# Altium schematic symbol library Miscellaneous Devices.SchLib: 110 symbols
Pins are listed as number, name and electrical type; pins without a type are passive.

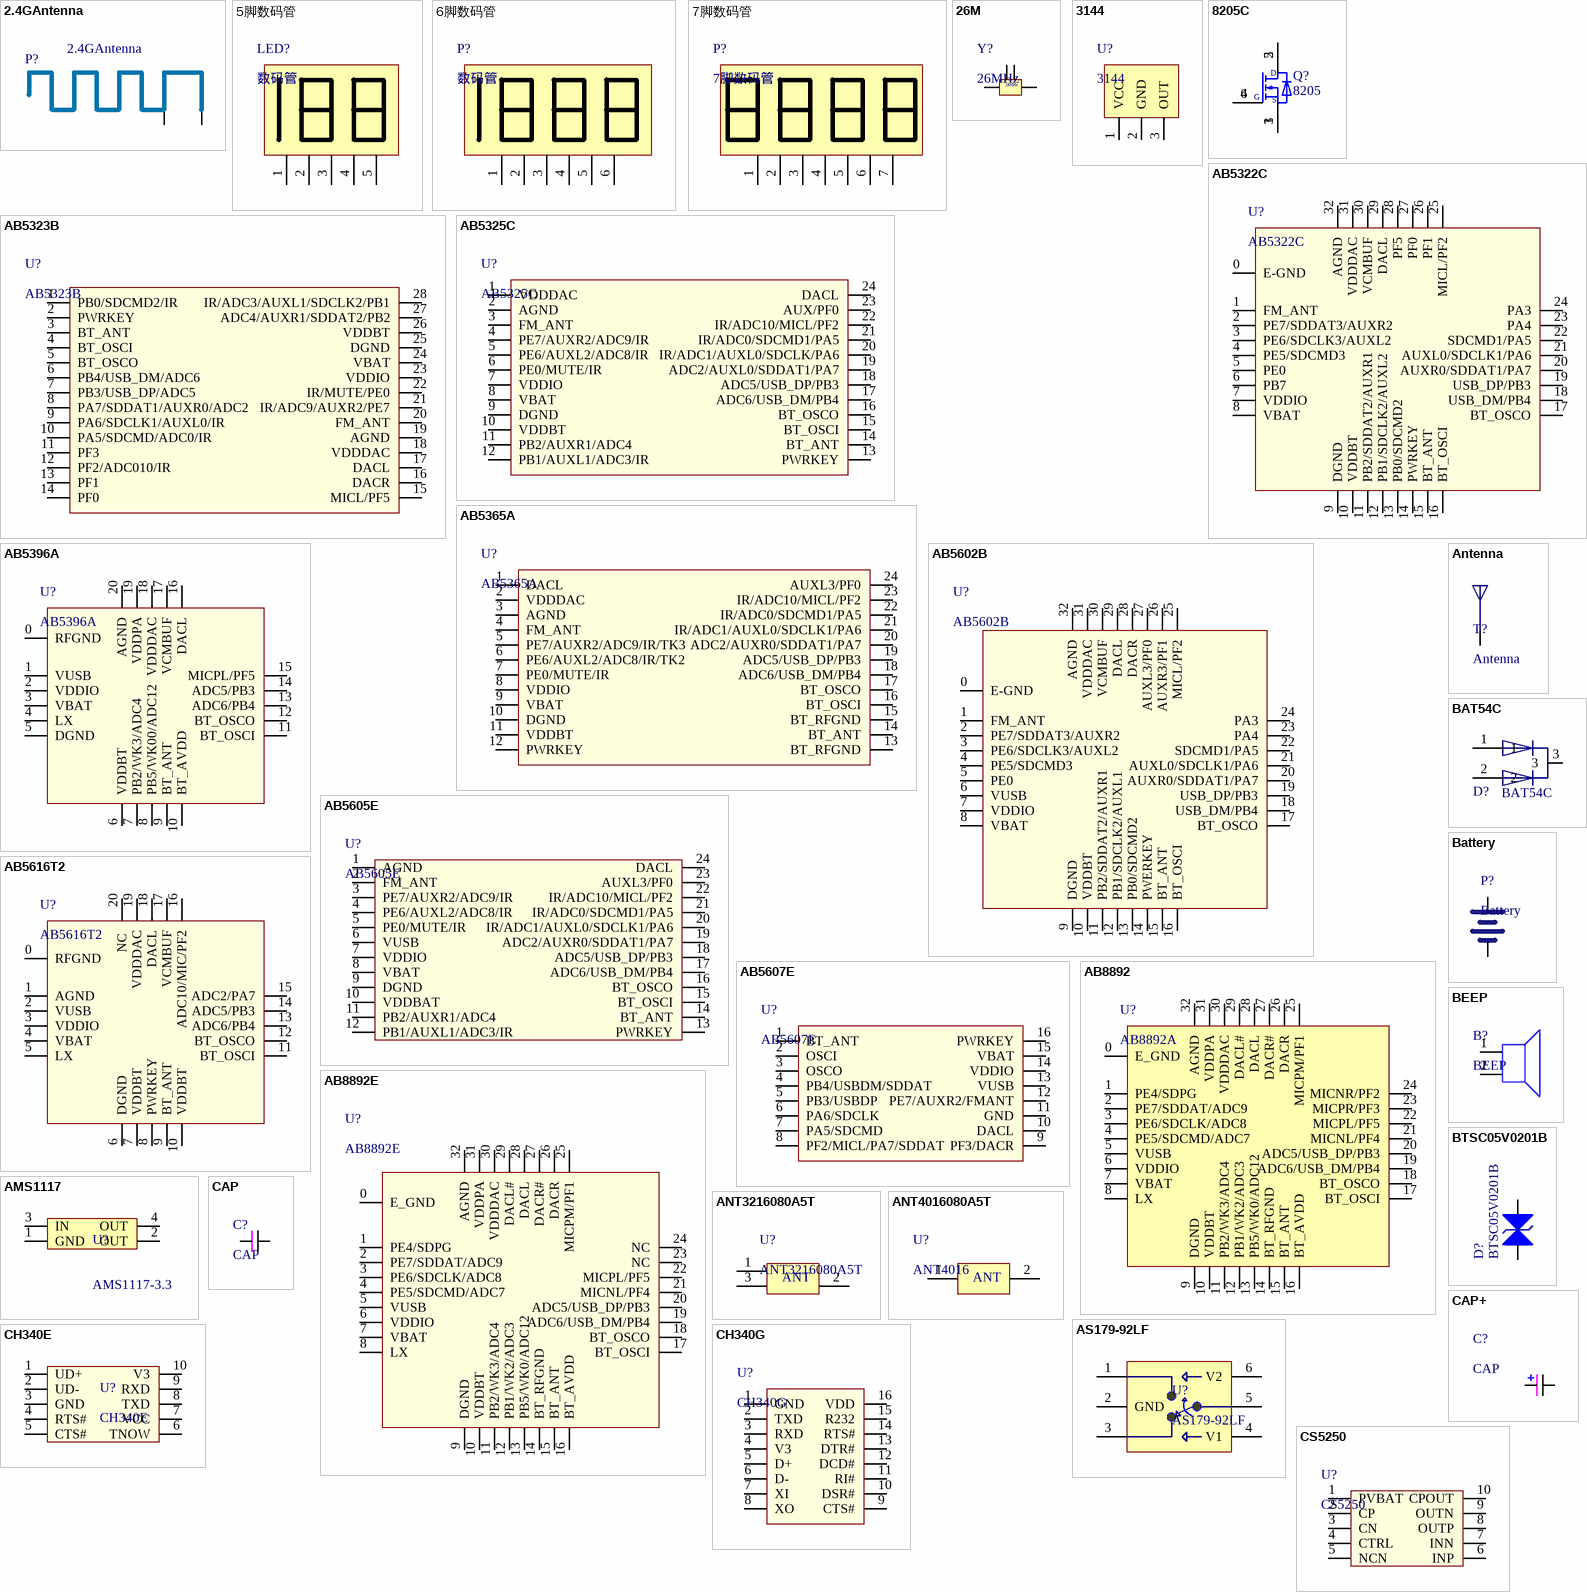
[diagram p0: symbols 2.4GAntenna to CS5250]

## 2.4GAntenna
designator P?
footprint 2_4G_RF
footprint 2.4_ANT
pins: 0, 1

## 5脚数码管
designator LED?, comment 数码管
footprint YFTD2256SW-5
pins: 1, 2, 3, 4, 5

## 6脚数码管
designator P?, comment 数码管
footprint 6脚3PIN数码管
footprint 6PIN 数码管
pins: 1, 2, 3, 4, 5, 6

## 7脚数码管
designator P?
footprint 7PIN 数码管
pins: 1, 2, 3, 4, 5, 6, 7

## 26M
designator Y?, comment 26MHz
footprint SX-3225
footprint M49SSMD
footprint SMD-2520
pins: 1, 2, 3, 4

## 3144
designator U?
footprint TO-92UA
pins: 1 VCC, 2 GND, 3 OUT

## 8205C
designator Q?, comment 8205
footprint SOT23L-6P
pins: 1 S, 2 D, 3 S, 4 G, 5 D, 6 G

## AB5322C
designator U?
footprint QFN40P400X400X75_HS-33N (QFN, 32-Leads, Body 4.00x4.00mm, Pitch 0.40mm, Thermal Pad 2.80x2.80mm, IPC Medium Density)
pins: 0 E-GND, 1 FM_ANT, 2 PE7/SDDAT3/AUXR2, 3 PE6/SDCLK3/AUXL2, 4 PE5/SDCMD3, 5 PE0, 6 PB7, 7 VDDIO, 8 VBAT, 9 DGND, 10 VDDBT, 11 PB2/SDDAT2/AUXR1, 12 PB1/SDCLK2/AUXL2, 13 PB0/SDCMD2, 14 PWRKEY, 15 BT_ANT, 16 BT_OSCI, 17 BT_OSCO, 18 USB_DM/PB4, 19 USB_DP/PB3, 20 AUXR0/SDDAT1/PA7, 21 AUXL0/SDCLK1/PA6, 22 SDCMD1/PA5, 23 PA4, 24 PA3, 25 MICL/PF2, 26 PF1, 27 PF0, 28 PF5, 29 DACL, 30 VCMBUF, 31 VDDDAC, 32 AGND

## AB5323B
designator U?
footprint SSOP28L
pins: 1 PB0/SDCMD2/IR, 2 PWRKEY, 3 BT_ANT, 4 BT_OSCI, 5 BT_OSCO, 6 PB4/USB_DM/ADC6, 7 PB3/USB_DP/ADC5, 8 PA7/SDDAT1/AUXR0/ADC2, 9 PA6/SDCLK1/AUXL0/IR, 10 PA5/SDCMD/ADC0/IR, 11 PF3, 12 PF2/ADC010/IR, 13 PF1, 14 PF0, 15 MICL/PF5, 16 DACR, 17 DACL, 18 VDDDAC, 19 AGND, 20 FM_ANT, 21 IR/ADC9/AUXR2/PE7, 22 IR/MUTE/PE0, 23 VDDIO, 24 VBAT, 25 DGND, 26 VDDBT, 27 ADC4/AUXR1/SDDAT2/PB2, 28 IR/ADC3/AUXL1/SDCLK2/PB1

## AB5325C
designator U?
footprint SSOP24-150mil
pins: 1 VDDDAC, 2 AGND, 3 FM_ANT, 4 PE7/AUXR2/ADC9/IR, 5 PE6/AUXL2/ADC8/IR, 6 PE0/MUTE/IR, 7 VDDIO, 8 VBAT, 9 DGND, 10 VDDBT, 11 PB2/AUXR1/ADC4, 12 PB1/AUXL1/ADC3/IR, 13 PWRKEY, 14 BT_ANT, 15 BT_OSCI, 16 BT_OSCO, 17 ADC6/USB_DM/PB4, 18 ADC5/USB_DP/PB3, 19 ADC2/AUXL0/SDDAT1/PA7, 20 IR/ADC1/AUXL0/SDCLK/PA6, 21 IR/ADC0/SDCMD1/PA5, 22 IR/ADC10/MICL/PF2, 23 AUX/PF0, 24 DACL

## AB5365A
designator U?
footprint SSOP24L
pins: 1 DACL, 2 VDDDAC, 3 AGND, 4 FM_ANT, 5 PE7/AUXR2/ADC9/IR/TK3, 6 PE6/AUXL2/ADC8/IR/TK2, 7 PE0/MUTE/IR, 8 VDDIO, 9 VBAT, 10 DGND, 11 VDDBT, 12 PWRKEY, 13 BT_RFGND, 14 BT_ANT, 15 BT_RFGND, 16 BT_OSCI, 17 BT_OSCO, 18 ADC6/USB_DM/PB4, 19 ADC5/USB_DP/PB3, 20 ADC2/AUXR0/SDDAT1/PA7, 21 IR/ADC1/AUXL0/SDCLK1/PA6, 22 IR/ADC0/SDCMD1/PA5, 23 IR/ADC10/MICL/PF2, 24 AUXL3/PF0

## AB5396A
designator U?
footprint QFN20_3X3 (AB_BT)
pins: 0 RFGND, 1 VUSB, 2 VDDIO, 3 VBAT, 4 LX, 5 DGND, 6 VDDBT, 7 PB2/WK3/ADC4, 8 PB5/WK00/ADC12, 9 BT_ANT, 10 BT_AVDD, 11 BT_OSCI, 12 BT_OSCO, 13 ADC6/PB4, 14 ADC5/PB3, 15 MICPL/PF5, 16 DACL, 17 VCMBUF, 18 VDDDAC, 19 VDDPA, 20 AGND

## AB5602B
designator U?
footprint QFN40P400X400X75_HS-33N (QFN, 32-Leads, Body 4.00x4.00mm, Pitch 0.40mm, Thermal Pad 2.80x2.80mm, IPC Medium Density)
pins: 0 E-GND, 1 FM_ANT, 2 PE7/SDDAT3/AUXR2, 3 PE6/SDCLK3/AUXL2, 4 PE5/SDCMD3, 5 PE0, 6 VUSB, 7 VDDIO, 8 VBAT, 9 DGND, 10 VDDBT, 11 PB2/SDDAT2/AUXR1, 12 PB1/SDCLK2/AUXL1, 13 PB0/SDCMD2, 14 PWERKEY, 15 BT_ANT, 16 BT_OSCI, 17 BT_OSCO, 18 USB_DM/PB4, 19 USB_DP/PB3, 20 AUXR0/SDDAT1/PA7, 21 AUXL0/SDCLK1/PA6, 22 SDCMD1/PA5, 23 PA4, 24 PA3, 25 MICL/PF2, 26 AUXR3/PF1, 27 AUXL3/PF0, 28 DACR, 29 DACL, 30 VCMBUF, 31 VDDDAC, 32 AGND

## AB5605E
designator U?
footprint SSOP24-150mil
pins: 1 AGND, 2 FM_ANT, 3 PE7/AUXR2/ADC9/IR, 4 PE6/AUXL2/ADC8/IR, 5 PE0/MUTE/IR, 6 VUSB, 7 VDDIO, 8 VBAT, 9 DGND, 10 VDDBAT, 11 PB2/AUXR1/ADC4, 12 PB1/AUXL1/ADC3/IR, 13 PWRKEY, 14 BT_ANT, 15 BT_OSCI, 16 BT_OSCO, 17 ADC6/USB_DM/PB4, 18 ADC5/USB_DP/PB3, 19 ADC2/AUXR0/SDDAT1/PA7, 20 IR/ADC1/AUXL0/SDCLK1/PA6, 21 IR/ADC0/SDCMD1/PA5, 22 IR/ADC10/MICL/PF2, 23 AUXL3/PF0, 24 DACL

## AB5607E
designator U?
footprint SOP127P600X175-16N (SOP, 16-Leads, Body 9.90x3.90mm, Pitch 1.27mm, IPC Medium Density)
pins: 1 BT_ANT, 2 OSCI, 3 OSCO, 4 PB4/USBDM/SDDAT, 5 PB3/USBDP, 6 PA6/SDCLK, 7 PA5/SDCMD, 8 PF2/MICL/PA7/SDDAT, 9 PF3/DACR, 10 DACL, 11 GND, 12 PE7/AUXR2/FMANT, 13 VUSB, 14 VDDIO, 15 VBAT, 16 PWRKEY

## AB5616T2
designator U?
footprint QFN20_3X3 (AB_BT)
pins: 0 RFGND, 1 AGND, 2 VUSB, 3 VDDIO, 4 VBAT, 5 LX, 6 DGND, 7 VDDBT, 8 PWRKEY, 9 BT_ANT, 10 VDDBT, 11 BT_OSCI, 12 BT_OSCO, 13 ADC6/PB4, 14 ADC5/PB3, 15 ADC2/PA7, 16 ADC10/MIC/PF2, 17 VCMBUF, 18 DACL, 19 VDDDAC, 20 NC 

## AB8892
designator U?, comment AB8892A
footprint QFN40P400X400X75_HS-33N (QFN, 32-Leads, Body 4.00x4.00mm, Pitch 0.40mm, Thermal Pad 2.80x2.80mm, IPC Medium Density)
pins: 0 E_GND, 1 PE4/SDPG, 2 PE7/SDDAT/ADC9, 3 PE6/SDCLK/ADC8, 4 PE5/SDCMD/ADC7, 5 VUSB, 6 VDDIO, 7 VBAT, 8 LX, 9 DGND, 10 VDDBT, 11 PB2/WK3/ADC4, 12 PB1/WK2/ADC3, 13 PB5/WK0/ADC12, 14 BT_RFGND, 15 BT_ANT, 16 BT_AVDD, 17 BT_OSCI, 18 BT_OSCO, 19 ADC6/USB_DM/PB4, 20 ADC5/USB_DP/PB3, 21 MICNL/PF4, 22 MICPL/PF5, 23 MICPR/PF3, 24 MICNR/PF2, 25 MICPM/PF1, 26 DACR, 27 DACR#, 28 DACL, 29 DACL#, 30 VDDDAC, 31 VDDPA, 32 AGND

## AB8892E
designator U?
footprint QFN40P400X400X75_HS-33N (QFN, 32-Leads, Body 4.00x4.00mm, Pitch 0.40mm, Thermal Pad 2.80x2.80mm, IPC Medium Density)
pins: 0 E_GND, 1 PE4/SDPG, 2 PE7/SDDAT/ADC9, 3 PE6/SDCLK/ADC8, 4 PE5/SDCMD/ADC7, 5 VUSB, 6 VDDIO, 7 VBAT, 8 LX, 9 DGND, 10 VDDBT, 11 PB2/WK3/ADC4, 12 PB1/WK2/ADC3, 13 PB5/WK0/ADC12, 14 BT_RFGND, 15 BT_ANT, 16 BT_AVDD, 17 BT_OSCI, 18 BT_OSCO, 19 ADC6/USB_DM/PB4, 20 ADC5/USB_DP/PB3, 21 MICNL/PF4, 22 MICPL/PF5, 23 NC, 24 NC, 25 MICPM/PF1, 26 DACR, 27 DACR#, 28 DACL, 29 DACL#, 30 VDDDAC, 31 VDDPA, 32 AGND

## AMS1117
designator U?, comment AMS1117-3.3
footprint SOT-223
pins: 1 GND, 2 OUT, 3 IN, 4 OUT

## ANT3216080A5T
designator U?
footprint ANT_3P_2012_2.05X1.23X0.45MM
pins: 1, 2, 3
text: ANT

## ANT4016080A5T
designator U?, comment ANT4016
footprint 4018Chip Antenna
pins: 1, 2
text: ANT

## Antenna
designator T?
footprint EIPEX3*3*1.25MM
pins: 1

## AS179-92LF
designator U?
footprint SOT65P220X95-6N
pins: 1, 2 GND, 3, 4 V1, 5, 6 V2

## BAT54C
designator D?
footprint SOT-23
pins: 1, 2, 3

## Battery
designator P?
footprint CR1220
pins: 1, 2

## BEEP
designator B?
footprint BEEP(R7H5)
footprint BEEP(4R5H6)
pins: 1, 2

## BTSC05V0201B
designator D?
footprint BTSC05V0201B
pins: 1, 2

## CAP
designator C?
footprint C0603
footprint C0805B
footprint C0402
footprint C0201
pins: 1 "C?", 2 "C?"

## CAP+
designator C?, comment CAP
footprint CAP2.54
footprint CAP-6.3*7*7
footprint CAP-R2.7-H8
pins: 1 "C?", 2 "C?"

## CH340E
designator U?
footprint MSOP-10
pins: 1 UD+, 2 UD-, 3 GND, 4 RTS#, 5 CTS#, 6 TNOW, 7 VCC, 8 TXD, 9 RXD, 10 V3

## CH340G
designator U?
footprint SOP16M
pins: 1 GND, 2 TXD, 3 RXD, 4 V3, 5 D+, 6 D-, 7 XI, 8 XO, 9 CTS#, 10 DSR#, 11 RI#, 12 DCD#, 13 DTR#, 14 RTS#, 15 R232, 16 VDD

## CS5250
designator U?
footprint ESOP-10L
pins: 1 PVBAT, 2 CP, 3 CN, 4 CTRL, 5 NCN, 6 INP, 7 INN, 8 OUTP, 9 OUTN, 10 CPOUT

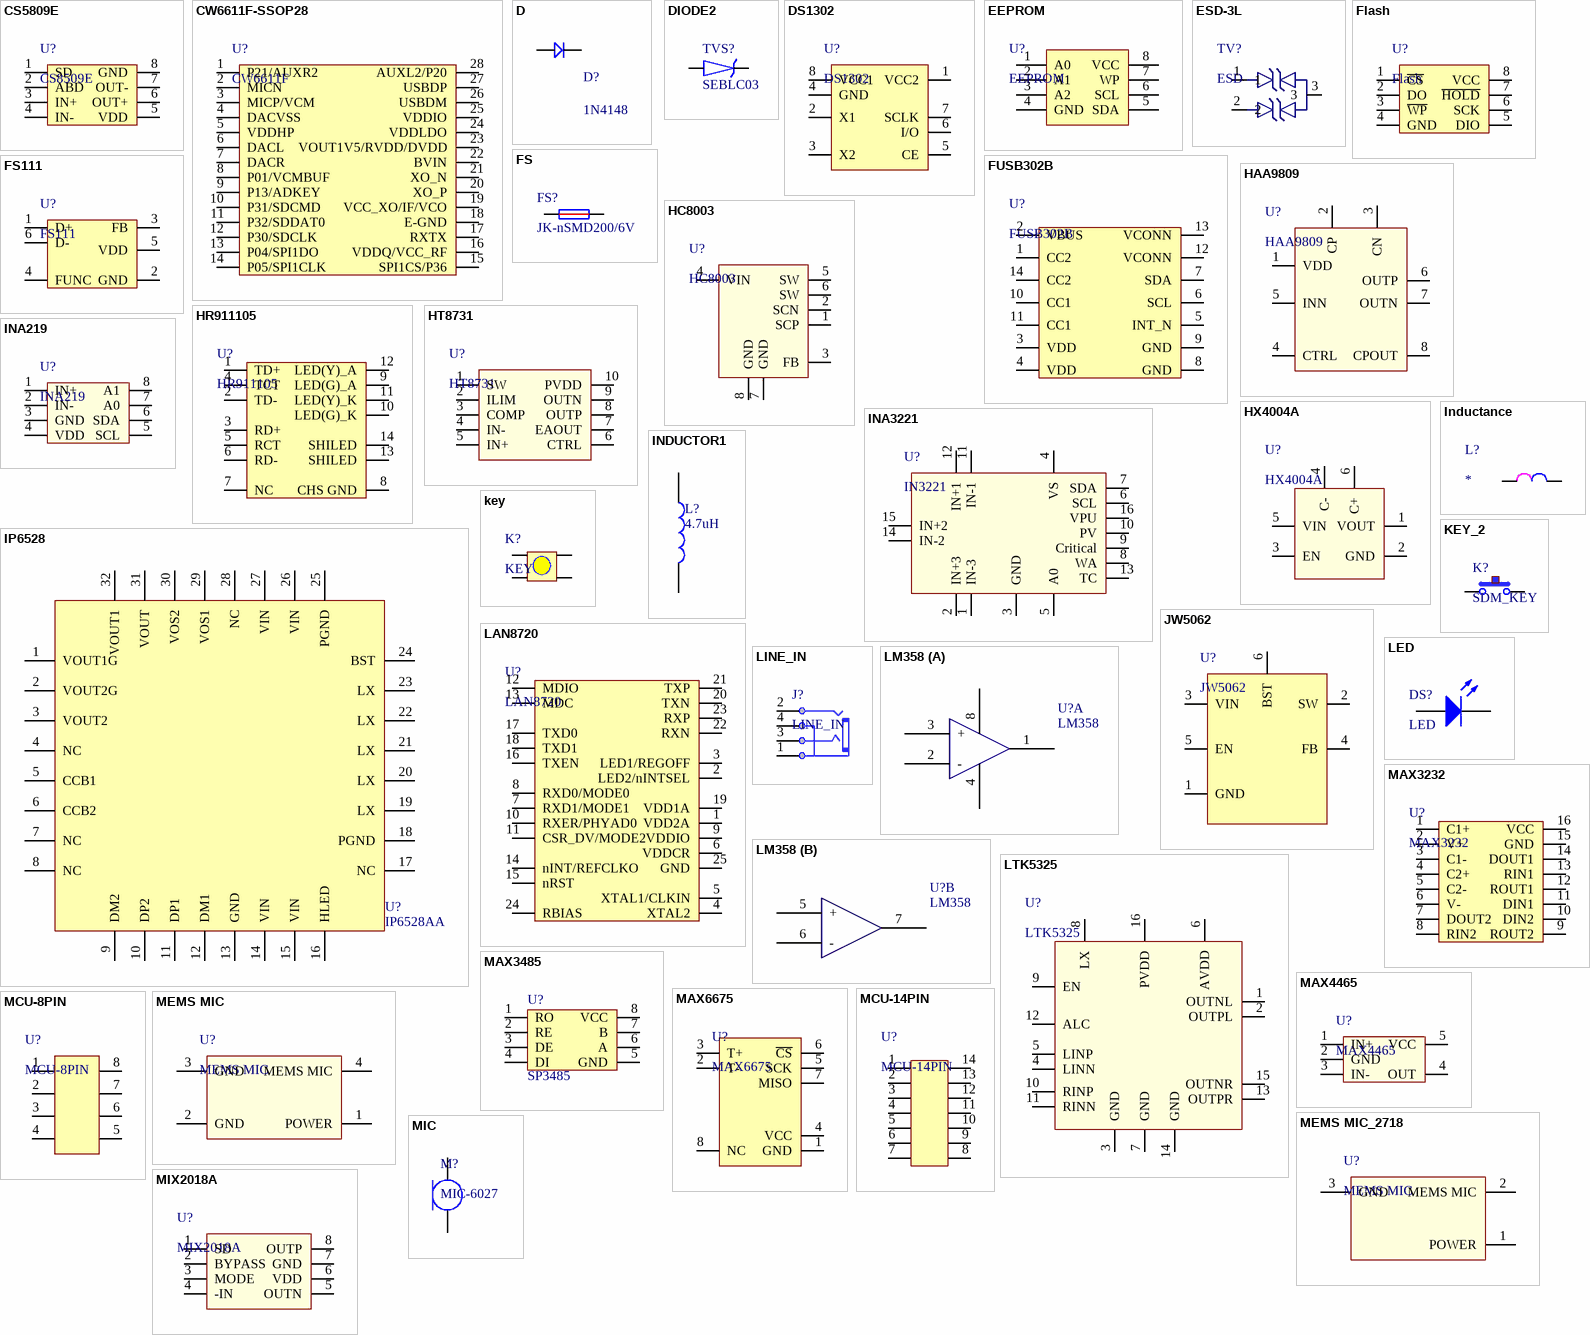
[diagram p1: symbols CS5809E to MIX2018A]

## CS5809E
designator U?, comment CS8509E
footprint ESOP8L
pins: 1 SD, 2 ABD, 3 IN+, 4 IN-, 5 VDD, 6 OUT+, 7 OUT-, 8 GND

## CW6611F-SSOP28
designator U?, comment CW6611F
footprint SOP65P780X200-28N (SOP, 28-Leads, Body 10.20x5.30mm, Pitch 0.65mm, IPC Medium Density)
pins: 1 P21/AUXR2, 2 MICN, 3 MICP/VCM, 4 DACVSS, 5 VDDHP, 6 DACL, 7 DACR, 8 P01/VCMBUF, 9 P13/ADKEY, 10 P31/SDCMD, 11 P32/SDDAT0, 12 P30/SDCLK, 13 P04/SPI1DO, 14 P05/SPI1CLK, 15 SPI1CS/P36, 16 VDDQ/VCC_RF, 17 RXTX, 18 E-GND, 19 VCC_XO/IF/VCO, 20 XO_P, 21 XO_N, 22 BVIN, 23 VOUT1V5/RVDD/DVDD, 24 VDDLDO, 25 VDDIO, 26 USBDM, 27 USBDP, 28 AUXL2/P20

## D
designator D?, comment 1N4148
footprint DO-214AC
footprint SOD-323
pins: 1, 2

## DIODE2
designator TVS?, comment SEBLC03
footprint SOD-323
pins: 1, 2

## DS1302
designator U?
footprint SOP-8_150MIL
pins: 1 VCC2, 2 X1, 3 X2, 4 GND, 5 CE, 6 I/O, 7 SCLK, 8 VCC1

## EEPROM
designator U?
footprint SOP-8_150MIL
pins: 1 A0, 2 A1, 3 A2, 4 GND, 5 SDA, 6 SCL, 7 WP, 8 VCC

## ESD-3L
designator TV?, comment ESD
footprint DFN1006-3
pins: 1, 2, 3

## Flash
designator U?
footprint SOP-8_150MIL
pins: 1 ~{CS}, 2 DO, 3 ~{WP}, 4 GND, 5 DIO, 6 SCK, 7 ~{HOLD}, 8 VCC

## FS
designator FS?, comment JK-nSMD200/6V
footprint FS-1206
pins: 1, 2

## FS111
designator U?
footprint SOT23L-6P
pins: 1 D+, 2 GND, 3 FB, 4 FUNC, 5 VDD, 6 D-

## FUSB302B
designator U?
footprint QFN2.5*2.5-14L
pins: 1 CC2, 2 VBUS, 3 VDD, 4 VDD, 5 INT_N, 6 SCL, 7 SDA, 8 GND, 9 GND, 10 CC1, 11 CC1, 12 VCONN, 13 VCONN, 14 CC2

## HAA9809
designator U?
footprint ESOP8L
pins: 1 VDD, 2 CP, 3 CN, 4 CTRL, 5 INN, 6 OUTP, 7 OUTN, 8 CPOUT

## HC8003
designator U?
footprint ESOP8L
pins: 1 SCP, 2 SCN, 3 FB, 4 VIN, 5 SW, 6 SW, 7 GND, 8 GND

## HR911105
designator U?
footprint HR911105A
pins: 1 TD+, 2 TD-, 3 RD+, 4 TCT, 5 RCT, 6 RD-, 7 NC, 8 CHS GND, 9 LED(G)_A, 10 LED(G)_K, 11 LED(Y)_K, 12 LED(Y)_A, 13 SHILED, 14 SHILED

## HT8731
designator U?
pins: 1 SW, 2 ILIM, 3 COMP, 4 IN-, 5 IN+, 6 CTRL, 7 EAOUT, 8 OUTP, 9 OUTN, 10 PVDD

## HX4004A
designator U?
footprint SOT23L-6P
pins: 1 VOUT, 2 GND, 3 EN, 4 C-, 5 VIN, 6 C+

## INA219
designator U?
footprint SOT-23-8
pins: 1 IN+, 2 IN-, 3 GND, 4 VDD, 5 SCL, 6 SDA, 7 A0, 8 A1

## INA3221
designator U?, comment IN3221
footprint QFN65P400X400X100_HS-17N (QFN, 16-Leads, Body 4.00x4.00mm, Pitch 0.65mm, Thermal Pad 2.10x2.10mm, IPC Medium Density)
pins: 1 IN-3, 2 IN+3, 3 GND, 4 VS, 5 A0, 6 SCL, 7 SDA, 8 WA, 9 Critical, 10 PV, 11 IN-1, 12 IN+1, 13 TC, 14 IN-2, 15 IN+2, 16 VPU

## Inductance
designator L?
footprint L0603
footprint L0402
footprint L0201
footprint L0805
pins: 1, 2

## INDUCTOR1
designator L?, comment 4.7uH
footprint Loop_inductance_R4.2
footprint MAPM1040F
footprint MAPM0603F
footprint MAPM1265
footprint SLT031125T2R2MNB
footprint L1210
pins: 1, 2

## IP6528
designator U?, comment IP6528AA
footprint QFN5*5-32
pins: 1 VOUT1G, 2 VOUT2G, 3 VOUT2, 4 NC, 5 CCB1, 6 CCB2, 7 NC, 8 NC, 9 DM2, 10 DP2, 11 DP1, 12 DM1, 13 GND, 14 VIN, 15 VIN, 16 HLED, 17 NC, 18 PGND, 19 LX, 20 LX, 21 LX, 22 LX, 23 LX, 24 BST, 25 PGND, 26 VIN, 27 VIN, 28 NC, 29 VOS1, 30 VOS2, 31 VOUT, 32 VOUT1

## JW5062
designator U?
footprint SOT23L-6P
pins: 1 GND, 2 SW, 3 VIN, 4 FB, 5 EN, 6 BST

## key
designator K?, comment KEY
footprint key_12*12*5
footprint SW-SMD_4P-L6.0-W6.0-P4.50-LS11.0
pins: 1, 2, 3, 4

## KEY_2
designator K?, comment SDM_KEY
footprint SMD-KEY
footprint SW-SMD_L3.9-W2.9-P4.15-LS5.0
footprint SMD-3*6*3.5-KEY
footprint SW-SMD_4P-L5.2-W5.2-P3.70-LS6.4
pins: 1, 2

## LAN8720
designator U?
footprint QFN24
pins: 1 VDD2A, 2 LED2/nINTSEL, 3 LED1/REGOFF, 4 XTAL2, 5 XTAL1/CLKIN, 6 VDDCR, 7 RXD1/MODE1, 8 RXD0/MODE0, 9 VDDIO, 10 RXER/PHYAD0, 11 CSR_DV/MODE2, 12 MDIO, 13 MDC, 14 nINT/REFCLKO, 15 nRST, 16 TXEN, 17 TXD0, 18 TXD1, 19 VDD1A, 20 TXN, 21 TXP, 22 RXN, 23 RXP, 24 RBIAS, 25 GND

## LED
designator DS?
footprint D0603
footprint D0402
footprint SMD-2835
pins: 1, 2

## LINE_IN
designator J?
footprint PJ-320D
pins: 1, 2, 3, 4

## LM358
designator U?
footprint SOP-8_150MIL
part A pins: 1, 2 -, 3 +, 4, 8
part B pins: 5 +, 6 -, 7

## LTK5325
designator U?
footprint SOP16M
pins: 1 OUTNL, 2 OUTPL, 3 GND, 4 LINN, 5 LINP, 6 AVDD, 7 GND, 8 LX, 9 EN, 10 RINP, 11 RINN, 12 ALC, 13 OUTPR, 14 GND, 15 OUTNR, 16 PVDD

## MAX3232
designator U?
footprint SOP16M
pins: 1 C1+, 2 V+, 3 C1-, 4 C2+, 5 C2-, 6 V-, 7 DOUT2, 8 RIN2, 9 ROUT2, 10 DIN2, 11 DIN1, 12 ROUT1, 13 RIN1, 14 DOUT1, 15 GND, 16 VCC

## MAX3485
designator U?, comment SP3485
footprint SOP-8_150MIL
pins: 1 RO, 2 RE, 3 DE, 4 DI, 5 GND, 6 A, 7 B, 8 VCC

## MAX4465
designator U?
footprint SC-70-5
pins: 1 IN+, 2 GND, 3 IN-, 4 OUT, 5 VCC

## MAX6675
designator U?
footprint SOP-8_150MIL
pins: 1 GND, 2 T-, 3 T+, 4 VCC, 5 SCK, 6 ~{CS}, 7 MISO, 8 NC

## MCU-8PIN
designator U?
footprint SOP-8_150MIL
pins: 1, 2, 3, 4, 5, 6, 7, 8

## MCU-14PIN
designator U?
footprint SOP-14
pins: 1, 2, 3, 4, 5, 6, 7, 8, 9, 10, 11, 12, 13, 14

## MEMS MIC
designator U?
footprint EBM2718AT-N30-A30
pins: 1 POWER, 2 GND, 3 GND, 4 MEMS MIC

## MEMS MIC_2718
designator U?, comment MEMS MIC
footprint MIC-2718
pins: 1 POWER, 2 MEMS MIC, 3 GND

## MIC
designator M?, comment MIC-6027
footprint MIC-6027
footprint MIC-4013
pins: 1, 2

## MIX2018A
designator U?
footprint ESOP8L
pins: 1 SD, 2 BYPASS, 3 MODE, 4 -IN, 5 OUTN, 6 VDD, 7 GND, 8 OUTP

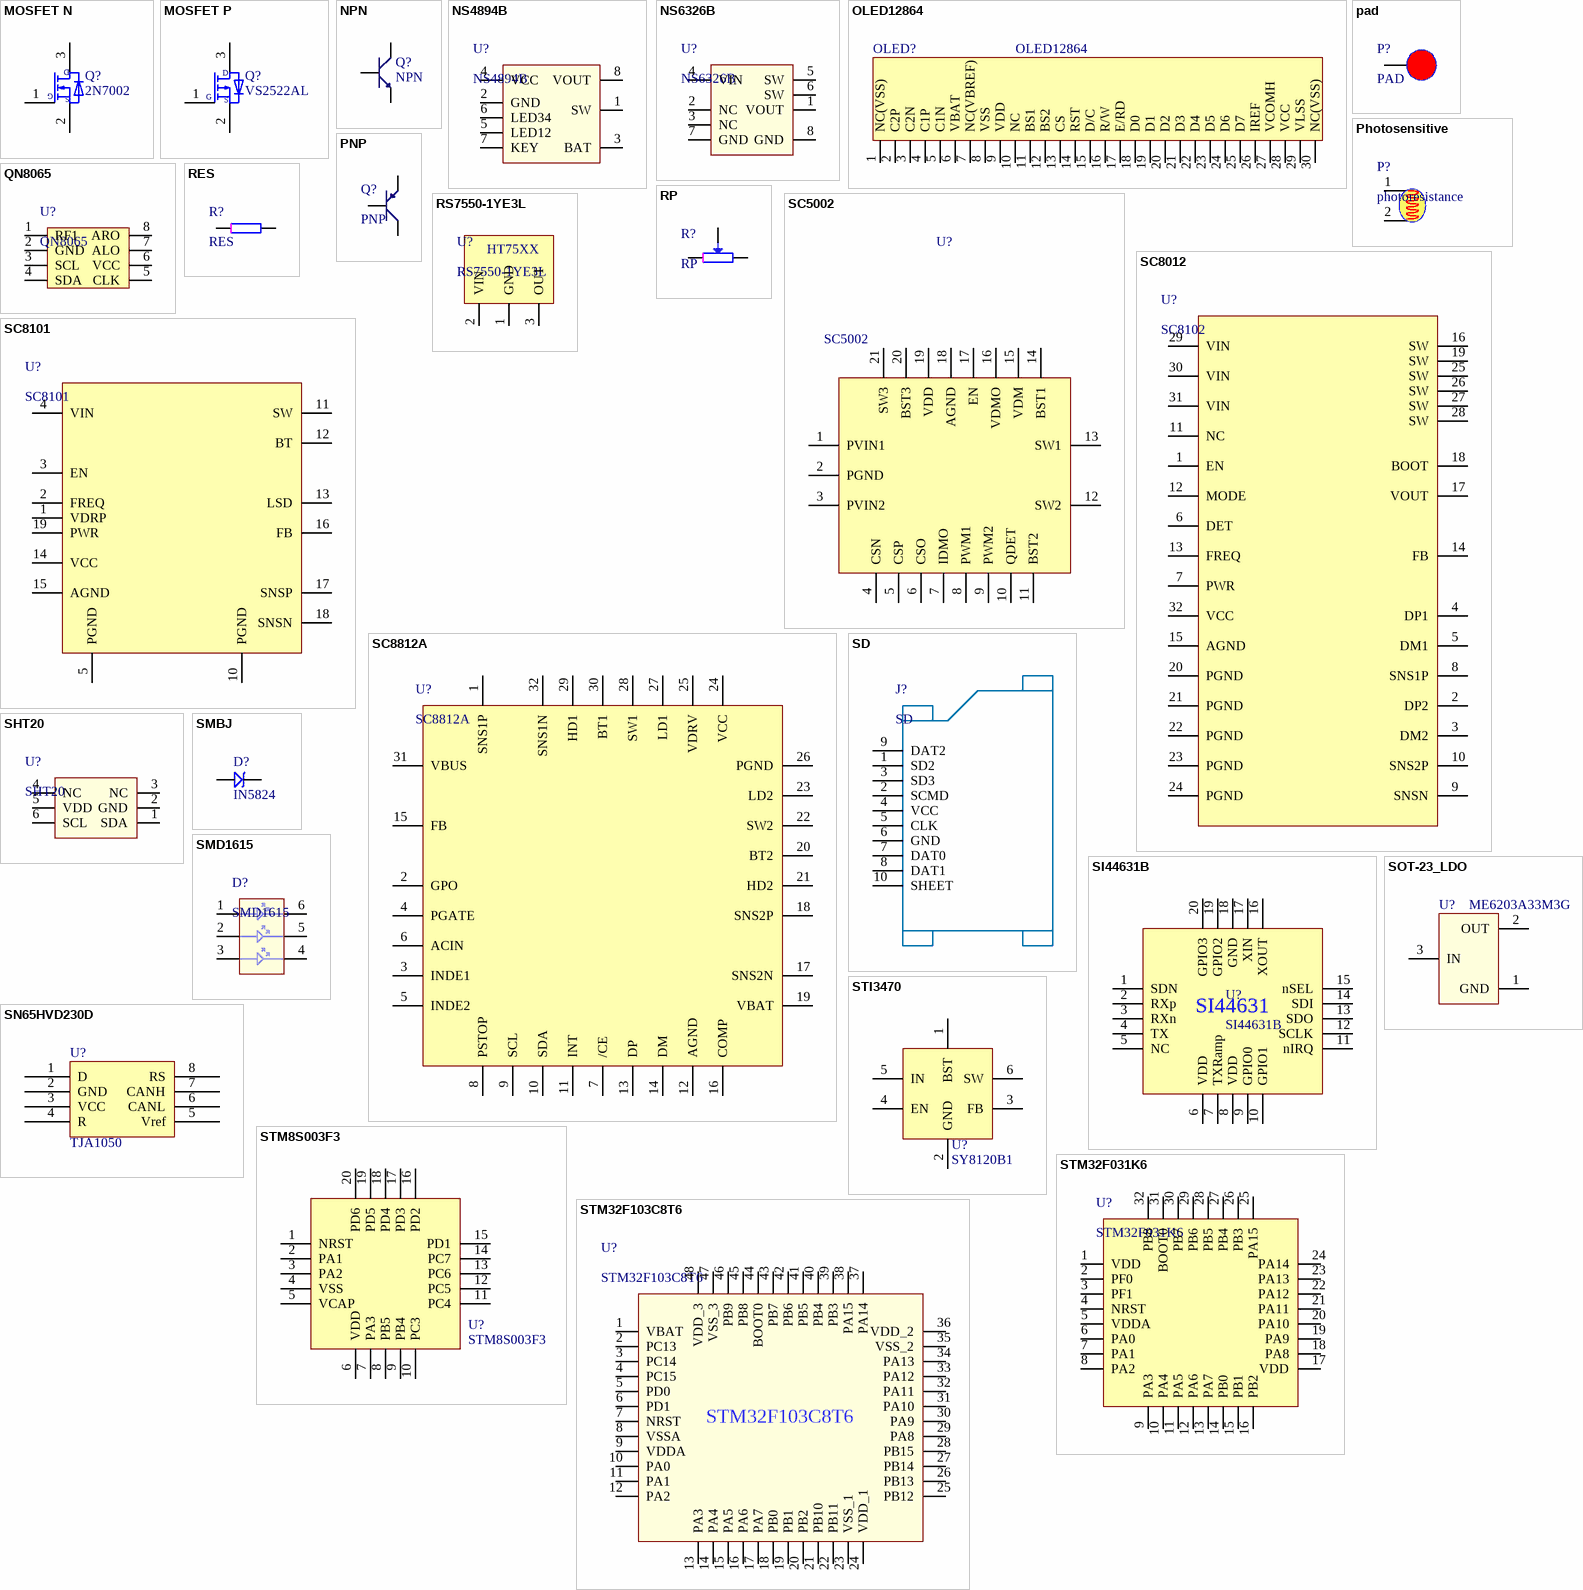
[diagram p2: symbols MOSFET N to STM32F103C8T6]

## MOSFET N
designator Q?, comment 2N7002
footprint SOT-23
footprint QFN3*3-8
pins: 1 G, 2 S, 3 D

## MOSFET P
designator Q?, comment VS2522AL
footprint SOT-23
footprint QFN3*3-8
pins: 1 G, 2 S, 3 D

## NPN
designator Q?
footprint SOT-23
pins: 1 B, 2 E, 3 C

## NS4894B
designator U?
footprint SOP-8_150MIL
pins: 1 SW, 2 GND, 3 BAT, 4 VCC, 5 LED12, 6 LED34, 7 KEY, 8 VOUT

## NS6326B
designator U?
footprint ESOP8L
pins: 1 VOUT, 2 NC, 3 NC, 4 VIN, 5 SW, 6 SW, 7 GND, 8 GND

## OLED12864
designator OLED?
footprint OLED_096
pins: 1 NC(VSS), 2 C2P, 3 C2N, 4 C1P, 5 C1N, 6 VBAT, 7 NC(VBREF), 8 VSS, 9 VDD, 10 NC, 11 BS1, 12 BS2, 13 CS, 14 RST, 15 D/C, 16 R/W, 17 E/RD, 18 D0, 19 D1, 20 D2, 21 D3, 22 D4, 23 D5, 24 D6, 25 D7, 26 IREF, 27 VCOMH, 28 VCC, 29 VLSS, 30 NC(VSS)

## pad
designator P?, comment PAD
footprint PAD-3*3*2
footprint 车充负极弹片
pins: 1

## Photosensitive
designator P?, comment photoresistance
footprint Photosensitive(7*6-5)
footprint Photosensitive
pins: 1, 2

## PNP
designator Q?
footprint SOT-23
pins: 1 E, 2 B, 3 C

## QN8065
designator U?
footprint SOP-8_150MIL
pins: 1 RF1, 2 GND, 3 SCL, 4 SDA, 5 CLK, 6 VCC, 7 ALO, 8 ARO

## RES
designator R?
footprint R0402
footprint R0603
footprint R0805
footprint R1206
footprint R-6.5MM
footprint R1206B
footprint R0201
pins: 1, 2

## RP
designator R?
footprint RES ADJUST
pins: 1, 2, 3

## RS7550-1YE3L
designator U?
footprint SOT89M
pins: 1 GND, 2 VIN, 3 OUT
text: HT75XX

## SC5002
designator U?
footprint FCQFN21L
pins: 1 PVIN1, 2 PGND, 3 PVIN2, 4 CSN, 5 CSP, 6 CSO, 7 IDMO, 8 PWM1, 9 PWM2, 10 QDET, 11 BST2, 12 SW2, 13 SW1, 14 BST1, 15 VDM, 16 VDMO, 17 EN, 18 AGND, 19 VDD, 20 BST3, 21 SW3

## SC8012
designator U?, comment SC8102
footprint QFN50P500X500X80-32N (QFN, 32-Leads, Body 5.00x5.00mm, Pitch 0.50mm, IPC Medium Density)
pins: 1 EN, 2 DP2, 3 DM2, 4 DP1, 5 DM1, 6 DET, 7 PWR, 8 SNS1P, 9 SNSN, 10 SNS2P, 11 NC, 12 MODE, 13 FREQ, 14 FB, 15 AGND, 16 SW, 17 VOUT, 18 BOOT, 19 SW, 20 PGND, 21 PGND, 22 PGND, 23 PGND, 24 PGND, 25 SW, 26 SW, 27 SW, 28 SW, 29 VIN, 30 VIN, 31 VIN, 32 VCC

## SC8101
designator U?
footprint QFN19(3mm*3mm*0.55mm)
pins: 1 VDRP, 2 FREQ, 3 EN, 4 VIN, 5 PGND, 10 PGND, 11 SW, 12 BT, 13 LSD, 14 VCC, 15 AGND, 16 FB, 17 SNSP, 18 SNSN, 19 PWR

## SC8812A
designator U?
footprint QFN4*4-32
pins: 1 SNS1P, 2 GPO, 3 INDE1, 4 PGATE, 5 INDE2, 6 ACIN, 7 /CE, 8 PSTOP, 9 SCL, 10 SDA, 11 INT, 12 AGND, 13 DP, 14 DM, 15 FB, 16 COMP, 17 SNS2N, 18 SNS2P, 19 VBAT, 20 BT2, 21 HD2, 22 SW2, 23 LD2, 24 VCC, 25 VDRV, 26 PGND, 27 LD1, 28 SW1, 29 HD1, 30 BT1, 31 VBUS, 32 SNS1N

## SD
designator J?
footprint SD
pins: 1 SD2, 2 SCMD, 3 SD3, 4 VCC, 5 CLK, 6 GND, 7 DAT0, 8 DAT1, 9 DAT2, 10 SHEET

## SHT20
designator U?
footprint DFN-6 (SHT20)
pins: 1 SDA, 2 GND, 3 NC, 4 NC, 5 VDD, 6 SCL

## SI44631B
designator U?
footprint QFN20-4*4
pins: 1 SDN, 2 RXp, 3 RXn, 4 TX, 5 NC, 6 VDD, 7 TXRamp, 8 VDD, 9 GPIO0, 10 GPIO1, 11 nIRQ, 12 SCLK, 13 SDO, 14 SDI, 15 nSEL, 16 XOUT, 17 XIN, 18 GND, 19 GPIO2, 20 GPIO3
text: SI44631

## SMBJ
designator D?, comment IN5824
TVS
footprint 0805D
pins: 1, 2

## SMD1615
designator D?
footprint SMD1615
footprint LED-SMD_6P-L5.0-W5.0-FD
pins: 1 G+, 2 R+, 3 B+, 4 B-, 5 R-, 6 G-

## SN65HVD230D
designator U?, comment TJA1050
footprint SOP-8_150MIL
pins: 1 D, 2 GND (power), 3 VCC (power), 4 R, 5 Vref, 6 CANL, 7 CANH, 8 RS
2 alternate drawings of the same symbol

## SOT-23_LDO
designator U?, comment ME6203A33M3G
footprint SOT-23
pins: 1 GND, 2 OUT, 3 IN

## STI3470
designator U?, comment SY8120B1
footprint SOT23L-6P
pins: 1 BST, 2 GND, 3 FB, 4 EN, 5 IN, 6 SW

## STM8S003F3
designator U?
footprint QFN3*3-20
pins: 1 NRST, 2 PA1, 3 PA2, 4 VSS, 5 VCAP, 6 VDD, 7 PA3, 8 PB5, 9 PB4, 10 PC3, 11 PC4, 12 PC5, 13 PC6, 14 PC7, 15 PD1, 16 PD2, 17 PD3, 18 PD4, 19 PD5, 20 PD6

## STM32F031K6
designator U?
footprint QFN5*5-32
pins: 1 VDD, 2 PF0, 3 PF1, 4 NRST, 5 VDDA, 6 PA0, 7 PA1, 8 PA2, 9 PA3, 10 PA4, 11 PA5, 12 PA6, 13 PA7, 14 PB0, 15 PB1, 16 PB2, 17 VDD, 18 PA8, 19 PA9, 20 PA10, 21 PA11, 22 PA12, 23 PA13, 24 PA14, 25 PA15, 26 PB3, 27 PB4, 28 PB5, 29 PB6, 30 PB7, 31 BOOT0, 32 PB8

## STM32F103C8T6
designator U?
footprint LQFP48
pins: 1 VBAT, 2 PC13, 3 PC14, 4 PC15, 5 PD0, 6 PD1, 7 NRST, 8 VSSA, 9 VDDA, 10 PA0, 11 PA1, 12 PA2, 13 PA3, 14 PA4, 15 PA5, 16 PA6, 17 PA7, 18 PB0, 19 PB1, 20 PB2, 21 PB10, 22 PB11, 23 VSS_1, 24 VDD_1, 25 PB12, 26 PB13, 27 PB14, 28 PB15, 29 PA8, 30 PA9, 31 PA10, 32 PA11, 33 PA12, 34 PA13, 35 VSS_2, 36 VDD_2, 37 PA14, 38 PA15, 39 PB3, 40 PB4, 41 PB5, 42 PB6, 43 PB7, 44 BOOT0, 45 PB8, 46 PB9, 47 VSS_3, 48 VDD_3

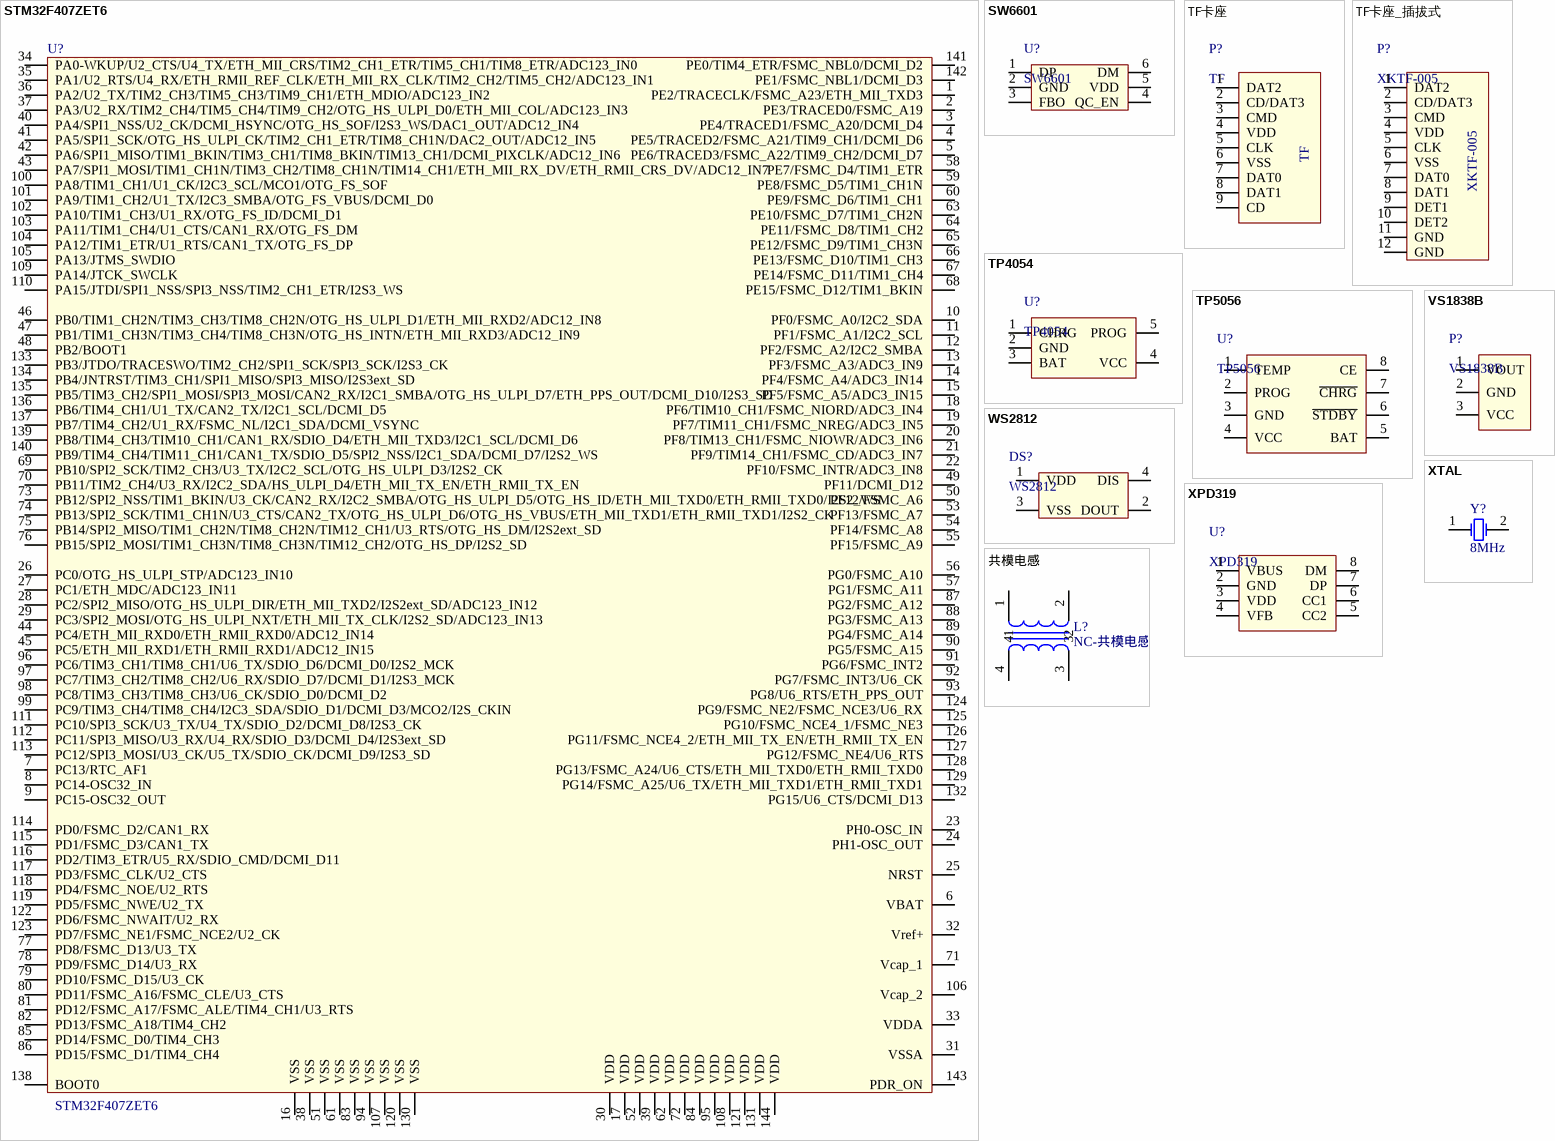
[diagram p3: symbols STM32F407ZET6 to 共模电感]

## STM32F407ZET6
designator U?
footprint LQFP144
pins: 1 PE2/TRACECLK/FSMC_A23/ETH_MII_TXD3, 2 PE3/TRACED0/FSMC_A19, 3 PE4/TRACED1/FSMC_A20/DCMI_D4, 4 PE5/TRACED2/FSMC_A21/TIM9_CH1/DCMI_D6, 5 PE6/TRACED3/FSMC_A22/TIM9_CH2/DCMI_D7, 6 VBAT, 7 PC13/RTC_AF1, 8 PC14-OSC32_IN, 9 PC15-OSC32_OUT, 10 PF0/FSMC_A0/I2C2_SDA, 11 PF1/FSMC_A1/I2C2_SCL, 12 PF2/FSMC_A2/I2C2_SMBA, 13 PF3/FSMC_A3/ADC3_IN9, 14 PF4/FSMC_A4/ADC3_IN14, 15 PF5/FSMC_A5/ADC3_IN15, 16 VSS, 17 VDD, 18 PF6/TIM10_CH1/FSMC_NIORD/ADC3_IN4, 19 PF7/TIM11_CH1/FSMC_NREG/ADC3_IN5, 20 PF8/TIM13_CH1/FSMC_NIOWR/ADC3_IN6, 21 PF9/TIM14_CH1/FSMC_CD/ADC3_IN7, 22 PF10/FSMC_INTR/ADC3_IN8, 23 PH0-OSC_IN, 24 PH1-OSC_OUT, 25 NRST, 26 PC0/OTG_HS_ULPI_STP/ADC123_IN10, 27 PC1/ETH_MDC/ADC123_IN11, 28 PC2/SPI2_MISO/OTG_HS_ULPI_DIR/ETH_MII_TXD2/I2S2ext_SD/ADC123_IN12, 29 PC3/SPI2_MOSI/OTG_HS_ULPI_NXT/ETH_MII_TX_CLK/I2S2_SD/ADC123_IN13, 30 VDD, 31 VSSA, 32 Vref+, 33 VDDA, 34 PA0-WKUP/U2_CTS/U4_TX/ETH_MII_CRS/TIM2_CH1_ETR/TIM5_CH1/TIM8_ETR/ADC123_IN0, 35 PA1/U2_RTS/U4_RX/ETH_RMII_REF_CLK/ETH_MII_RX_CLK/TIM2_CH2/TIM5_CH2/ADC123_IN1, 36 PA2/U2_TX/TIM2_CH3/TIM5_CH3/TIM9_CH1/ETH_MDIO/ADC123_IN2, 37 PA3/U2_RX/TIM2_CH4/TIM5_CH4/TIM9_CH2/OTG_HS_ULPI_D0/ETH_MII_COL/ADC123_IN3, 38 VSS, 39 VDD, 40 PA4/SPI1_NSS/U2_CK/DCMI_HSYNC/OTG_HS_SOF/I2S3_WS/DAC1_OUT/ADC12_IN4, 41 PA5/SPI1_SCK/OTG_HS_ULPI_CK/TIM2_CH1_ETR/TIM8_CH1N/DAC2_OUT/ADC12_IN5, 42 PA6/SPI1_MISO/TIM1_BKIN/TIM3_CH1/TIM8_BKIN/TIM13_CH1/DCMI_PIXCLK/ADC12_IN6, 43 PA7/SPI1_MOSI/TIM1_CH1N/TIM3_CH2/TIM8_CH1N/TIM14_CH1/ETH_MII_RX_DV/ETH_RMII_CRS_DV/ADC12_IN7, 44 PC4/ETH_MII_RXD0/ETH_RMII_RXD0/ADC12_IN14, 45 PC5/ETH_MII_RXD1/ETH_RMII_RXD1/ADC12_IN15, 46 PB0/TIM1_CH2N/TIM3_CH3/TIM8_CH2N/OTG_HS_ULPI_D1/ETH_MII_RXD2/ADC12_IN8, 47 PB1/TIM1_CH3N/TIM3_CH4/TIM8_CH3N/OTG_HS_INTN/ETH_MII_RXD3/ADC12_IN9, 48 PB2/BOOT1, 49 PF11/DCMI_D12, 50 PF12/FSMC_A6, 51 VSS, 52 VDD, 53 PF13/FSMC_A7, 54 PF14/FSMC_A8, 55 PF15/FSMC_A9, 56 PG0/FSMC_A10, 57 PG1/FSMC_A11, 58 PE7/FSMC_D4/TIM1_ETR, 59 PE8/FSMC_D5/TIM1_CH1N, 60 PE9/FSMC_D6/TIM1_CH1, 61 VSS, 62 VDD, 63 PE10/FSMC_D7/TIM1_CH2N, 64 PE11/FSMC_D8/TIM1_CH2, 65 PE12/FSMC_D9/TIM1_CH3N, 66 PE13/FSMC_D10/TIM1_CH3, 67 PE14/FSMC_D11/TIM1_CH4, 68 PE15/FSMC_D12/TIM1_BKIN, 69 PB10/SPI2_SCK/TIM2_CH3/U3_TX/I2C2_SCL/OTG_HS_ULPI_D3/I2S2_CK, 70 PB11/TIM2_CH4/U3_RX/I2C2_SDA/HS_ULPI_D4/ETH_MII_TX_EN/ETH_RMII_TX_EN, 71 Vcap_1, 72 VDD, 73 PB12/SPI2_NSS/TIM1_BKIN/U3_CK/CAN2_RX/I2C2_SMBA/OTG_HS_ULPI_D5/OTG_HS_ID/ETH_MII_TXD0/ETH_RMII_TXD0/I2S2_WS, 74 PB13/SPI2_SCK/TIM1_CH1N/U3_CTS/CAN2_TX/OTG_HS_ULPI_D6/OTG_HS_VBUS/ETH_MII_TXD1/ETH_RMII_TXD1/I2S2_CK, 75 PB14/SPI2_MISO/TIM1_CH2N/TIM8_CH2N/TIM12_CH1/U3_RTS/OTG_HS_DM/I2S2ext_SD, 76 PB15/SPI2_MOSI/TIM1_CH3N/TIM8_CH3N/TIM12_CH2/OTG_HS_DP/I2S2_SD, 77 PD8/FSMC_D13/U3_TX, 78 PD9/FSMC_D14/U3_RX, 79 PD10/FSMC_D15/U3_CK, 80 PD11/FSMC_A16/FSMC_CLE/U3_CTS, 81 PD12/FSMC_A17/FSMC_ALE/TIM4_CH1/U3_RTS, 82 PD13/FSMC_A18/TIM4_CH2, 83 VSS, 84 VDD, 85 PD14/FSMC_D0/TIM4_CH3, 86 PD15/FSMC_D1/TIM4_CH4, 87 PG2/FSMC_A12, 88 PG3/FSMC_A13, 89 PG4/FSMC_A14, 90 PG5/FSMC_A15, 91 PG6/FSMC_INT2, 92 PG7/FSMC_INT3/U6_CK, 93 PG8/U6_RTS/ETH_PPS_OUT, 94 VSS, 95 VDD, 96 PC6/TIM3_CH1/TIM8_CH1/U6_TX/SDIO_D6/DCMI_D0/I2S2_MCK, 97 PC7/TIM3_CH2/TIM8_CH2/U6_RX/SDIO_D7/DCMI_D1/I2S3_MCK, 98 PC8/TIM3_CH3/TIM8_CH3/U6_CK/SDIO_D0/DCMI_D2, 99 PC9/TIM3_CH4/TIM8_CH4/I2C3_SDA/SDIO_D1/DCMI_D3/MCO2/I2S_CKIN, 100 PA8/TIM1_CH1/U1_CK/I2C3_SCL/MCO1/OTG_FS_SOF, 101 PA9/TIM1_CH2/U1_TX/I2C3_SMBA/OTG_FS_VBUS/DCMI_D0, 102 PA10/TIM1_CH3/U1_RX/OTG_FS_ID/DCMI_D1, 103 PA11/TIM1_CH4/U1_CTS/CAN1_RX/OTG_FS_DM, 104 PA12/TIM1_ETR/U1_RTS/CAN1_TX/OTG_FS_DP, 105 PA13/JTMS_SWDIO, 106 Vcap_2, 107 VSS, 108 VDD, 109 PA14/JTCK_SWCLK, 110 PA15/JTDI/SPI1_NSS/SPI3_NSS/TIM2_CH1_ETR/I2S3_WS, 111 PC10/SPI3_SCK/U3_TX/U4_TX/SDIO_D2/DCMI_D8/I2S3_CK, 112 PC11/SPI3_MISO/U3_RX/U4_RX/SDIO_D3/DCMI_D4/I2S3ext_SD, 113 PC12/SPI3_MOSI/U3_CK/U5_TX/SDIO_CK/DCMI_D9/I2S3_SD, 114 PD0/FSMC_D2/CAN1_RX, 115 PD1/FSMC_D3/CAN1_TX, 116 PD2/TIM3_ETR/U5_RX/SDIO_CMD/DCMI_D11, 117 PD3/FSMC_CLK/U2_CTS, 118 PD4/FSMC_NOE/U2_RTS, 119 PD5/FSMC_NWE/U2_TX, 120 VSS, 121 VDD, 122 PD6/FSMC_NWAIT/U2_RX, 123 PD7/FSMC_NE1/FSMC_NCE2/U2_CK, 124 PG9/FSMC_NE2/FSMC_NCE3/U6_RX, 125 PG10/FSMC_NCE4_1/FSMC_NE3, 126 PG11/FSMC_NCE4_2/ETH_MII_TX_EN/ETH_RMII_TX_EN, 127 PG12/FSMC_NE4/U6_RTS, 128 PG13/FSMC_A24/U6_CTS/ETH_MII_TXD0/ETH_RMII_TXD0, 129 PG14/FSMC_A25/U6_TX/ETH_MII_TXD1/ETH_RMII_TXD1, 130 VSS, 131 VDD, 132 PG15/U6_CTS/DCMI_D13, 133 PB3/JTDO/TRACESWO/TIM2_CH2/SPI1_SCK/SPI3_SCK/I2S3_CK, 134 PB4/JNTRST/TIM3_CH1/SPI1_MISO/SPI3_MISO/I2S3ext_SD, 135 PB5/TIM3_CH2/SPI1_MOSI/SPI3_MOSI/CAN2_RX/I2C1_SMBA/OTG_HS_ULPI_D7/ETH_PPS_OUT/DCMI_D10/I2S3_SD, 136 PB6/TIM4_CH1/U1_TX/CAN2_TX/I2C1_SCL/DCMI_D5, 137 PB7/TIM4_CH2/U1_RX/FSMC_NL/I2C1_SDA/DCMI_VSYNC, 138 BOOT0, 139 PB8/TIM4_CH3/TIM10_CH1/CAN1_RX/SDIO_D4/ETH_MII_TXD3/I2C1_SCL/DCMI_D6, 140 PB9/TIM4_CH4/TIM11_CH1/CAN1_TX/SDIO_D5/SPI2_NSS/I2C1_SDA/DCMI_D7/I2S2_WS, 141 PE0/TIM4_ETR/FSMC_NBL0/DCMI_D2, 142 PE1/FSMC_NBL1/DCMI_D3, 143 PDR_ON, 144 VDD

## SW6601
designator U?
footprint SOT23L-6P
pins: 1 DP, 2 GND, 3 FBO, 4 QC_EN, 5 VDD, 6 DM

## TF卡座
designator P?, comment TF
footprint TF-SMD_TF-15-15
pins: 1 DAT2, 2 CD/DAT3, 3 CMD, 4 VDD, 5 CLK, 6 VSS, 7 DAT0, 8 DAT1, 9 CD

## TF卡座_插拔式
designator P?, comment XKTF-005
footprint XKTF-005
pins: 1 DAT2, 2 CD/DAT3, 3 CMD, 4 VDD, 5 CLK, 6 VSS, 7 DAT0, 8 DAT1, 9 DET1, 10 DET2, 11 GND, 12 GND

## TP4054
designator U?
footprint SOT-23-5
pins: 1 CHRG, 2 GND, 3 BAT, 4 VCC, 5 PROG

## TP5056
designator U?
footprint ESOP8L
pins: 1 TEMP, 2 PROG, 3 GND, 4 VCC, 5 BAT, 6 ~{STDBY}, 7 ~{CHRG}, 8 CE

## VS1838B
designator P?
footprint DY-IRM-WA01-B
pins: 1 VOUT, 2 GND, 3 VCC

## WS2812
designator DS?
footprint SMD-5*5-WS2812
pins: 1 VDD, 2 DOUT, 3 VSS, 4 DIS

## XPD319
designator U?
footprint SOP-8_150MIL
pins: 1 VBUS, 2 GND, 3 VDD, 4 VFB, 5 CC2, 6 CC1, 7 DP, 8 DM

## XTAL
designator Y?, comment 8MHz
Crystal Oscillator; Published: 8-Jun-2000; LatestRevisionDate: 17-Jul-2002; LatestRevisionNote: Re-released for DXP Platform.; Publisher: Altium Limited
footprint AT26
footprint XTAL-49-SMD
pins: 1 OSC1, 2 OSC2

## 共模电感
designator L?, comment NC-共模电感
footprint 贴片共模电感
footprint ACM7060
pins: 1, 2, 3, 4